# EAGLE library part L6924D013TR (library Battery Chargers)
Charger IC Lithium Ion/Polymer 16-VFQFPN (3x3) Manufacturer's datasheet <https://www.st.com/content/ccc/resource/technical/document/datasheet/group2/50/c4/60/ab/e6/09/4f/80/CD00079821/files/CD00079821.pdf/jcr:content/translations/en.CD00079821.pdf>
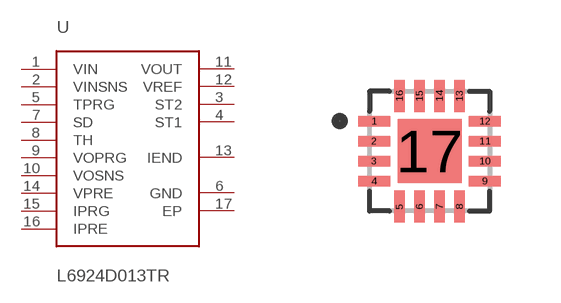
[diagram p7: symbol with the pads of L6924D013TR; footprint L6924D013TR]

Designator prefix U

## L6924D013TR (CREATED_BY: PCBLayout.com; DIGIKEY_PART_NUMBER: 497-5100-1-ND; MANUFACTURER: STMicroelectronics; MPN: L6924D013TR; PACKAGE: 16-VFQFPN)  [L6924D013TR]
1  VIN  in
2  VINSNS  in
3  ST2  out
4  ST1  out
5  TPRG  in
6  GND  pwr
7  SD  in
8  TH  in
9  VOPRG  in
10  VOSNS  in
11  VOUT  out
12  VREF  out
13  IEND
14  VPRE  in
15  IPRG  in
16  IPRE  in
17  EP  pwr

## Footprint L6924D013TR (pad centres in mm)
smd 0.8 x 0.26: 1 -1.385,0.75; 2 -1.385,0.25; 3 -1.385,-0.25; 4 -1.385,-0.75; 9 1.385,-0.75; 10 1.385,-0.25; 11 1.385,0.25; 12 1.385,0.75
smd 0.26 x 0.8: 5 -0.75,-1.385; 6 -0.25,-1.385; 7 0.25,-1.385; 8 0.75,-1.385; 13 0.75,1.385; 14 0.25,1.385; 15 -0.25,1.385; 16 -0.75,1.385
smd 1.6 x 1.6: 17 0,0